# Altium footprint library 通信模块.PcbLib: 2 footprints
Each footprint in its own frame and in the unit in brackets; x right, y up, seen from the top. Pads: shape width x height; smd on the part's side, far side on the other; paste and mask are expansions set on the pad; w line width, h text height; cw(c..) or ccw(c..) is an arc to the next point about the centre after c.
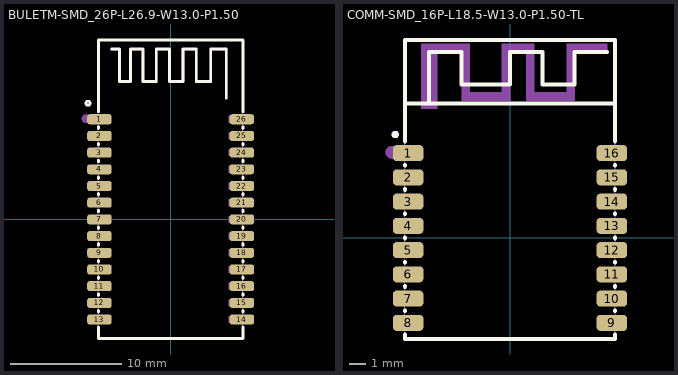
[diagram p0: the footprints below, top view; thin cyan lines are the x and y axes]

## BULETM-SMD_26P-L26.9-W13.0-P1.50 [mm]
pads (26):
  rrect50% 2.2x0.9 smd paste+0 mask+0.05: 1(-6.4,9) 2(-6.4,7.5) 3(-6.4,6) 4(-6.4,4.5) 5(-6.4,3) 6(-6.4,1.5) 7(-6.4,0) 8(-6.4,-1.5) 9(-6.4,-3) 10(-6.4,-4.5) 11(-6.4,-6) 12(-6.4,-7.5) 13(-6.4,-9) 14(6.4,-9) 15(6.4,-7.5) 16(6.4,-6) 17(6.4,-4.5) 18(6.4,-3) 19(6.4,-1.5) 20(6.4,0) 21(6.4,1.5) 22(6.4,3) 23(6.4,4.5) 24(6.4,6) 25(6.4,7.5) 26(6.4,9)
Top Overlay:
  circle w0.254: c-7.43,10.44 r0.184
  lines w0.254: -6.49,-9.681 -6.49,-10.71 6.51,-10.71 6.51,-9.681 ; -6.49,-8.319 -6.49,-8.181 ; -6.49,-6.819 -6.49,-6.681 ; -6.49,-5.319 -6.49,-5.181 ; -6.49,-3.819 -6.49,-3.681 ; -6.49,-2.319 -6.49,-2.181 ; -6.49,-0.819 -6.49,-0.681 ; -6.49,0.681 -6.49,0.819 ; -6.49,2.181 -6.49,2.319 ; -6.49,3.681 -6.49,3.819 ; -6.49,5.181 -6.49,5.319 ; -6.49,6.681 -6.49,6.819 ; -6.49,8.181 -6.49,8.319 ; -6.49,9.681 -6.49,16.09 ; -6.48,16.12 6.51,16.12 6.51,9.681 ; -5.3,15.3 -4.6,15.3 -4.6,12.4 -3.6,12.4 -3.6,15.3 -2.5,15.3 -2.5,12.4 -1.3,12.4 -1.3,15.3 -0.1,15.3 -0.1,12.4 1.1,12.4 1.1,15.3 2.3,15.3 2.3,12.4 3.6,12.4 3.6,15.3 5,15.3 5,10.9 ; 6.51,-8.319 6.51,-8.181 ; 6.51,-6.819 6.51,-6.681 ; 6.51,-5.319 6.51,-5.181 ; 6.51,-3.819 6.51,-3.681 ; 6.51,-2.319 6.51,-2.181 ; 6.51,-0.819 6.51,-0.681 ; 6.51,0.681 6.51,0.819 ; 6.51,2.181 6.51,2.319 ; 6.51,3.681 6.51,3.819 ; 6.51,5.181 6.51,5.319 ; 6.51,6.681 6.51,6.819 ; 6.51,8.181 6.51,8.319
Mechanical 6:
  circle w0.4: c-7.6,9.05 r0.2
  region: -5.4,15.4 -4.5,15.4 -4.5,12.5 -3.7,12.5 -3.7,15.4 -2.4,15.4 -2.4,12.5 -1.4,12.5 -1.4,15.4 0,15.4 0,12.5 1,12.5 1,15.4 2.4,15.4 2.4,12.5 3.5,12.5 3.5,15.4 5.1,15.4 5.1,10.9 4.9,10.9 4.9,15.2 3.7,15.2 3.7,12.3 2.2,12.3 2.2,15.2 1.2,15.2 1.2,12.3 -0.2,12.3 -0.2,15.2 -1.2,15.2 -1.2,12.3 -2.6,12.3 -2.6,15.2 -3.5,15.2 -3.5,12.3 -4.7,12.3 -4.7,15.2 -5.4,15.2
Mechanical 15:
  region: -5.4,9.3 -5.4,8.7 -6.6,8.7 -6.6,9.3
  region: -5.4,7.8 -5.4,7.2 -6.6,7.2 -6.6,7.8
  region: -5.4,6.3 -5.4,5.7 -6.6,5.7 -6.6,6.3
  region: -5.4,4.8 -5.4,4.2 -6.6,4.2 -6.6,4.8
  region: -5.4,3.3 -5.4,2.7 -6.6,2.7 -6.6,3.3
  region: -5.4,1.8 -5.4,1.2 -6.6,1.2 -6.6,1.8
  region: -5.4,0.3 -5.4,-0.3 -6.6,-0.3 -6.6,0.3
  region: -5.4,-1.2 -5.4,-1.8 -6.6,-1.8 -6.6,-1.2
  region: -5.4,-2.7 -5.4,-3.3 -6.6,-3.3 -6.6,-2.7
  region: -5.4,-4.2 -5.4,-4.8 -6.6,-4.8 -6.6,-4.2
  region: -5.4,-5.7 -5.4,-6.3 -6.6,-6.3 -6.6,-5.7
  region: -5.4,-7.2 -5.4,-7.8 -6.6,-7.8 -6.6,-7.2
  region: -5.4,-8.7 -5.4,-9.3 -6.6,-9.3 -6.6,-8.7
  region: 6.4,9.3 6.4,8.7 5.2,8.7 5.2,9.3
  region: 6.4,7.8 6.4,7.2 5.2,7.2 5.2,7.8
  region: 6.4,6.3 6.4,5.7 5.2,5.7 5.2,6.3
  region: 6.4,4.8 6.4,4.2 5.2,4.2 5.2,4.8
  region: 6.4,3.3 6.4,2.7 5.2,2.7 5.2,3.3
  region: 6.4,1.8 6.4,1.2 5.2,1.2 5.2,1.8
  region: 6.4,0.3 6.4,-0.3 5.2,-0.3 5.2,0.3
  region: 6.4,-1.2 6.4,-1.8 5.2,-1.8 5.2,-1.2
  region: 6.4,-2.7 6.4,-3.3 5.2,-3.3 5.2,-2.7
  region: 6.4,-4.2 6.4,-4.8 5.2,-4.8 5.2,-4.2
  region: 6.4,-5.7 6.4,-6.3 5.2,-6.3 5.2,-5.7
  region: 6.4,-7.2 6.4,-7.8 5.2,-7.8 5.2,-7.2
  region: 6.4,-8.7 6.4,-9.3 5.2,-9.3 5.2,-8.7
  region: -6.44,16.153 -6.441,16.178 -6.476,16.212 -6.525,16.212 -6.56,16.178 -6.56,16.153 -6.56,16.129 -6.525,16.094 -6.476,16.094 -6.441,16.129
  lines w0.051: -6.5,-10.75 6.5,-10.75 6.5,16.15 -6.5,16.15 -6.5,-10.75
3D body "U1.step": height 1.81, standoff 0, extent -6.501,-10.732 6.501,16.168

## COMM-SMD_16P-L18.5-W13.0-P1.50-TL [mm]
pads (16):
  rrect50% 1.9x1 smd paste+0 mask+0.05: 1(-6.3,5.25) 2(-6.3,3.75) 3(-6.3,2.25) 4(-6.3,0.75) 5(-6.3,-0.75) 6(-6.3,-2.25) 7(-6.3,-3.75) 8(-6.3,-5.25) 9(6.3,-5.25) 10(6.3,-3.75) 11(6.3,-2.25) 12(6.3,-0.75) 13(6.3,0.75) 14(6.3,2.25) 15(6.3,3.75) 16(6.3,5.25)
Top Overlay:
  circle w0.254: c-7.1,6.4 r0.1
  lines w0.254: -6.5,-5.981 -6.5,-6.25 6.5,-6.25 6.5,-5.981 ; -6.5,-4.519 -6.5,-4.481 ; -6.5,-3.019 -6.5,-2.981 ; -6.5,-1.519 -6.5,-1.481 ; -6.5,-0.019 -6.5,0.019 ; -6.5,1.481 -6.5,1.519 ; -6.5,2.981 -6.5,3.019 ; -6.5,4.481 -6.5,4.519 ; -6.5,5.981 -6.5,12.25 6.5,12.25 6.5,5.981 ; -6.5,8.322 6.5,8.322 ; -5.001,8.501 -5.001,11.501 -3,11.501 -3,9.499 0,9.499 0,11.501 1.999,11.501 1.999,9.499 4.001,9.499 4.001,11.501 6,11.501 ; 6.5,-4.519 6.5,-4.481 ; 6.5,-3.019 6.5,-2.981 ; 6.5,-1.519 6.5,-1.481 ; 6.5,-0.019 6.5,0.019 ; 6.5,1.481 6.5,1.519 ; 6.5,2.981 6.5,3.019 ; 6.5,4.481 6.5,4.519
Mechanical 6:
  circle w0.4: c-7.3,5.3 r0.2
  region: -5.5,8 -5.5,12 -2.5,12 -2.5,9 -0.5,9 -0.5,12 1.5,12 1.5,9 3.5,9 3.5,12 6,12 6,11.5 4,11.5 4,8.5 1,8.5 1,11.5 0,11.5 0,8.5 -3,8.5 -3,11.5 -4.5,11.5 -4.5,8
Mechanical 15:
  region: -6.5,5.65 -5.5,5.65 -5.5,4.85 -6.5,4.85
  region: -6.5,4.15 -5.5,4.15 -5.5,3.35 -6.5,3.35
  region: -6.5,2.65 -5.5,2.65 -5.5,1.85 -6.5,1.85
  region: -6.5,1.15 -5.5,1.15 -5.5,0.35 -6.5,0.35
  region: -6.5,-0.35 -5.5,-0.35 -5.5,-1.15 -6.5,-1.15
  region: -6.5,-1.85 -5.5,-1.85 -5.5,-2.65 -6.5,-2.65
  region: -6.5,-3.35 -5.5,-3.35 -5.5,-4.15 -6.5,-4.15
  region: -6.5,-4.85 -5.5,-4.85 -5.5,-5.65 -6.5,-5.65
  region: 5.5,-4.85 6.5,-4.85 6.5,-5.65 5.5,-5.65
  region: 5.5,-3.35 6.5,-3.35 6.5,-4.15 5.5,-4.15
  region: 5.5,-1.85 6.5,-1.85 6.5,-2.65 5.5,-2.65
  region: 5.5,-0.35 6.5,-0.35 6.5,-1.15 5.5,-1.15
  region: 5.5,1.15 6.5,1.15 6.5,0.35 5.5,0.35
  region: 5.5,2.65 6.5,2.65 6.5,1.85 5.5,1.85
  region: 5.5,4.15 6.5,4.15 6.5,3.35 5.5,3.35
  region: 5.5,5.65 6.5,5.65 6.5,4.85 5.5,4.85
  region: -6.44,12.25 -6.441,12.274 -6.476,12.308 -6.524,12.308 -6.559,12.274 -6.56,12.25 -6.559,12.226 -6.524,12.192 -6.476,12.192 -6.441,12.226
  lines w0.051: -6.5,-6.25 6.5,-6.25 6.5,12.25 -6.5,12.25 -6.5,-6.25
3D body "22.step": height 1.81, standoff 0, extent -6.501,-6.235 6.501,12.265